# Altium footprint library Solar cell strip.PcbLib: 2 footprints
Each footprint in its own frame and in the unit in brackets; x right, y up, seen from the top. Pads: shape width x height; smd on the part's side, far side on the other; paste and mask are expansions set on the pad; w line width, h text height; cw(c..) or ccw(c..) is an arc to the next point about the centre after c.
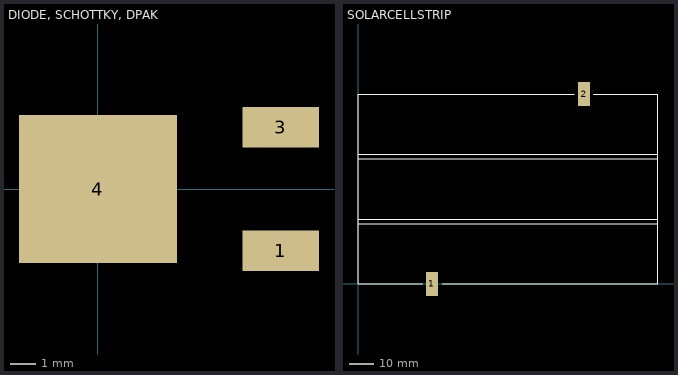
[diagram p0: the footprints below, top view; thin cyan lines are the x and y axes]

## DIODE, SCHOTTKY, DPAK [mm]
pads (3):
  rect 3x1.6 smd: 1(7.18,-2.428) 3(7.18,2.428)
  rect 6.2x5.8 smd: 4(0,0)

## SOLARCELLSTRIP [mm] "Solar cell footprint"
pads (2):
  rect 5x10 smd: 1(30.734,0) 2(94.25,79)
Top Overlay:
  lines w0.254: 0,27 125,27 ; 0,52 125,52 ; 0,54 125,54 ; 27,0 0,0 0,25 ; 35,0 125,0 125,25 ; 90,79 0,79 0,25 ; 98,79 125,79 125,25 ; 0,25 125,25 ; 125,50 125,50